# EAGLE library part STM32F070F_P6 (library marius)
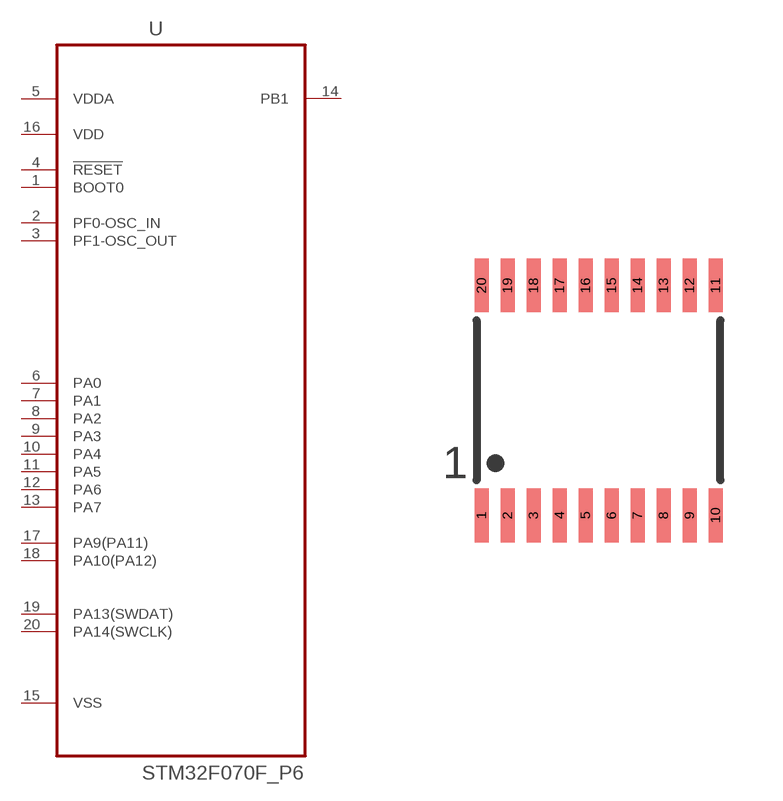
[diagram p31: symbol with the pads of TSSOP20; footprint TSSOP20]

Designator prefix -

## STM32F070F_P6  [TSSOP20]
1  BOOT0  in
2  PF0-OSC_IN
3  PF1-OSC_OUT
4  !RESET
5  VDDA  pwr
6  PA0
7  PA1
8  PA2
9  PA3
10  PA4
11  PA5
12  PA6
13  PA7
14  PB1
15  VSS  pas
16  VDD  pwr
17  PA9(PA11)
18  PA10(PA12)
19  PA13(SWDAT)
20  PA14(SWCLK)

## Footprint TSSOP20 (pad centres in mm)
16-Lead Thin Shrink Small Outline Package [TSSOP] (RU-16) Source: 8x ADG1408_1409.pdf
smd 0.35 x 1.35: 1 -2.925,-2.875; 2 -2.275,-2.875; 3 -1.625,-2.875; 4 -0.975,-2.875; 5 -0.325,-2.875; 6 0.325,-2.875; 7 0.975,-2.875; 8 1.625,-2.875; 9 2.275,-2.875; 10 2.925,-2.875; 11 2.925,2.875; 12 2.275,2.875; 13 1.625,2.875; 14 0.975,2.875; 15 0.325,2.875; 16 -0.325,2.875; 17 -0.975,2.875; 18 -1.625,2.875; 19 -2.275,2.875; 20 -2.925,2.875